# Altium footprint library Diodes.PcbLib: 37 footprints (part 1 of 3)
Each footprint in its own frame and in the unit in brackets; x right, y up, seen from the top. Pads: shape width x height; smd on the part's side, far side on the other; paste and mask are expansions set on the pad; w line width, h text height; cw(c..) or ccw(c..) is an arc to the next point about the centre after c.
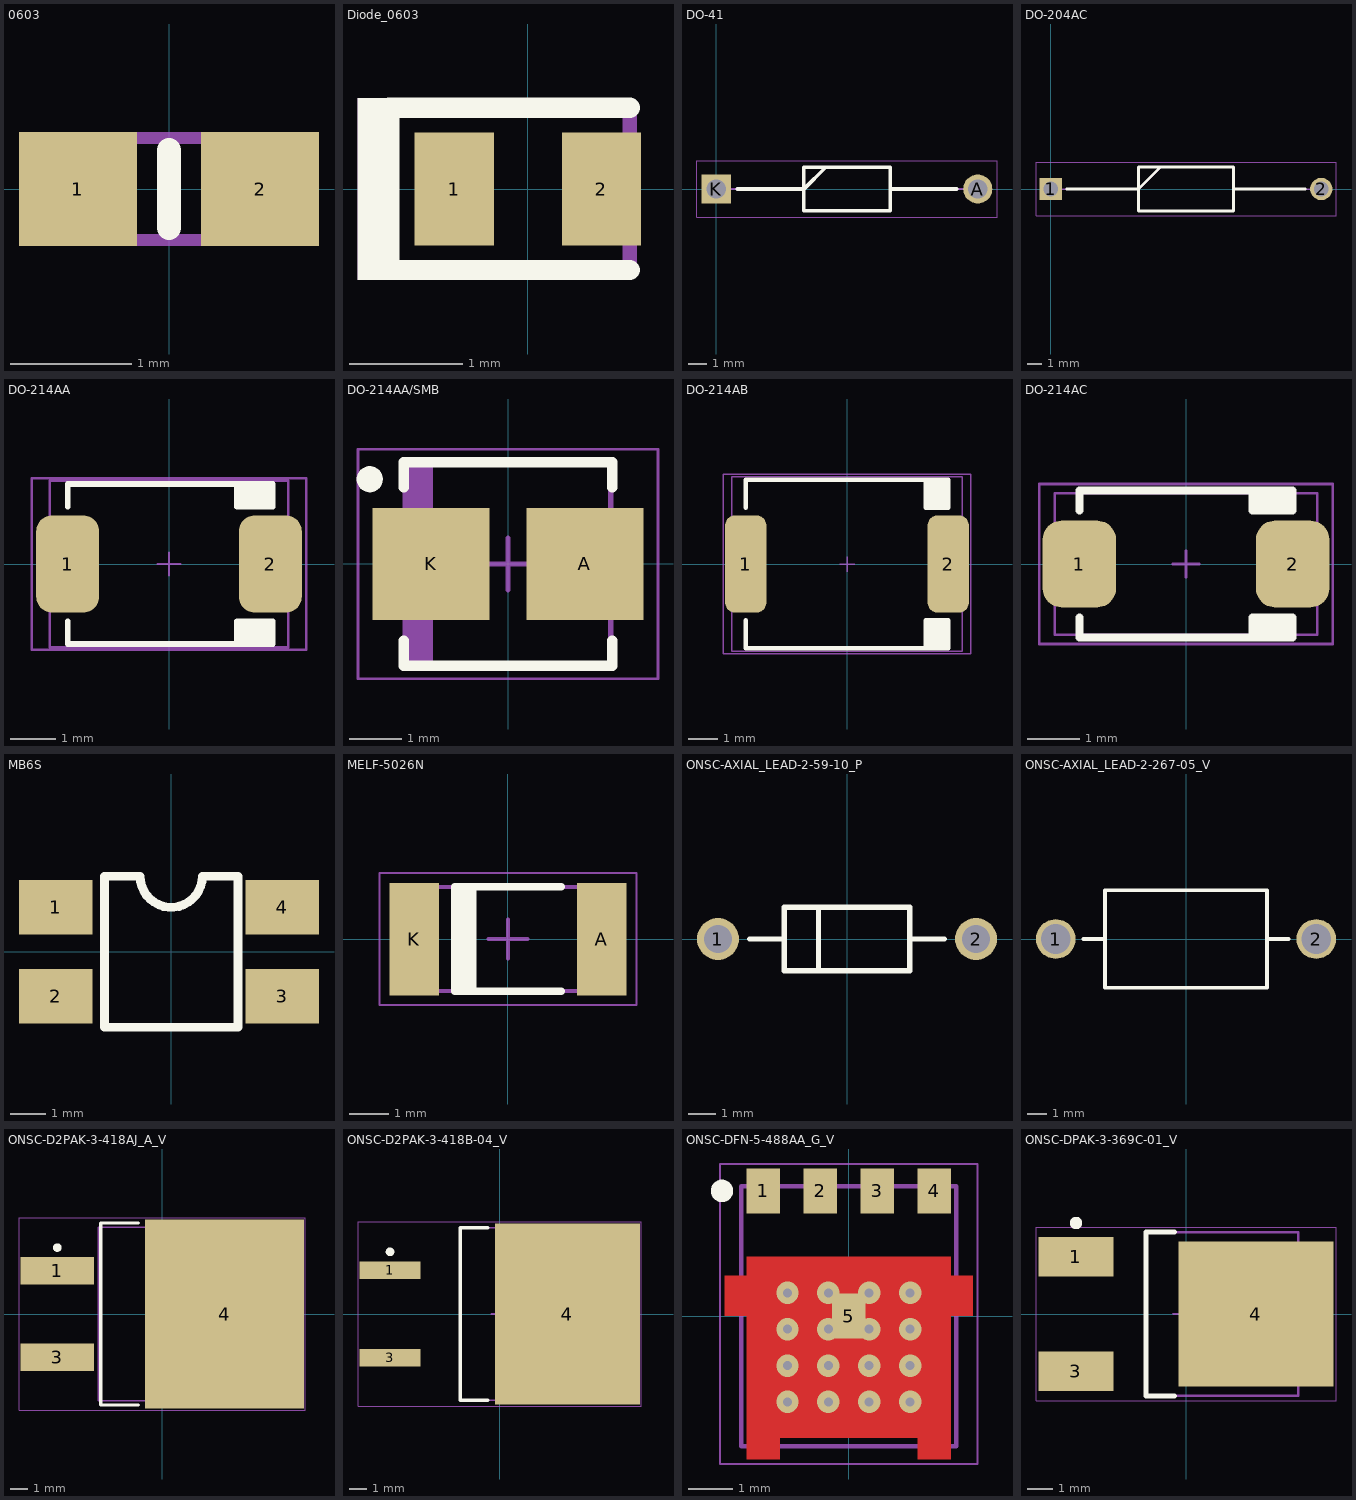
[diagram p0: the footprints below, top view; thin cyan lines are the x and y axes]

## 0603 [mm]
pads (2):
  rect 0.97x0.94 smd: 1(-0.75,0) 2(0.75,0)
Top Overlay:
  lines w0.2: 0,-0.32 0,0.32
Mechanical 15:
  lines w0.1: -0.83,-0.42 -0.83,0.42 0.83,0.42 0.83,-0.42 -0.83,-0.42

## Diode_0603 [mm]
pads (2):
  rect 0.7x1 smd: 1(-0.65,0) 2(0.65,0)
Top Overlay:
  region: -1.5,0.8 -1.5,-0.8 -1.2,-0.8 -1.2,0.8
  lines w0.178: 0.9,-0.716 -1.224,-0.716 -1.224,0.718 0.9,0.718
Mechanical 5:
  region: -1.5,0.8 -1.5,-0.8 -1.2,-0.8 -1.2,0.8
  lines w0.127: -1.224,-0.716 -1.224,0.718 0.9,0.718 0.9,-0.716 -1.224,-0.716
3D body "Diode_0603.stp": height 0.85, standoff 0, extent -0.9,-0.5 0.9,0.5

## DO-41 [mm]
pads (2):
  round 1.575 hole 1.05: A(14.1,0)
  rect 1.575x1.575 / inner round 1.575 / far side rect 1.575x1.575 hole 1.05: K(0,0)
Top Overlay:
  lines w0.2: 1.138,0 4.725,0 5.9,1.175 ; 9.375,0 12.962,0 ; 4.725,-1.175 4.725,1.175 9.375,1.175 9.375,-1.175 4.725,-1.175
Mechanical 15:
  lines w0.1: 0,0 4.725,0 5.9,1.175 ; 9.375,0 14.1,0 ; 4.725,-1.175 4.725,1.175 9.375,1.175 9.375,-1.175 4.725,-1.175
Mechanical 20:
  lines w0.05: -1.038,-1.525 -1.038,1.525 15.137,1.525 15.137,-1.525 -1.038,-1.525
3D body "1N4937RLG.stp": height 2.69, standoff -2.7, extent -0.341,-1.397 14.565,1.298

## DO-204AC [mm]
pads (2):
  rect 1.575x1.575 / inner round 1.575 / far side rect 1.575x1.575 hole 1.05: 1(0,0)
  round 1.575 hole 1.05: 2(19.1,0)
Top Overlay:
  lines w0.2: 1.138,0 6.2,0 7.75,1.55 ; 12.9,0 17.962,0 ; 6.2,-1.55 12.9,-1.55 12.9,1.55 6.2,1.55 6.2,-1.55
Mechanical 15:
  lines w0.1: 0,0 6.2,0 7.75,1.55 ; 12.9,0 19.1,0 ; 6.2,-1.55 12.9,-1.55 12.9,1.55 6.2,1.55 6.2,-1.55
Mechanical 20:
  lines w0.05: -1.038,-1.9 20.137,-1.9 20.137,1.9 -1.038,1.9 -1.038,-1.9
3D body "SB240-E3_54.stp": height 3.6, standoff -3.6, extent -0.326,-1.822 19.63,1.778

## DO-214AA [mil] "SMB"
height 104.33
pads (2):
  rrect50% 55x85 smd: 1(-88.58,0) 2(88.58,0)
Top Overlay:
  region: 59.5,50 59.5,70 90.58,70 90.58,50
  region: 59.5,-50 59.5,-70 90.58,-70 90.58,-50
  lines w5: -88.58,-50 -88.58,-70 90.58,-70 90.58,-50 59.5,-50 59.5,-70 ; -88.58,50 -88.58,70 90.58,70 90.58,50 59.5,50 59.5,70
Mechanical 13:
  lines w2: -10,0 10,0 ; 0,-10 0,10 ; -104.33,-72.84 -104.33,72.84 104.33,72.84 104.33,-72.84 -104.33,-72.84
Mechanical 14:
  lines w2: -120,-75 120,-75 120,75 -120,75 -120,-75
3D body "User Library-DO-214AA_SMB.STEP": height 86.65, standoff -1.97, extent -104.33,-72.84 104.33,72.84

## DO-214AA/SMB [mm]
height 2
pads (2):
  rect 2.25x2.15 smd: A(1.475,0) K(-1.475,0)
Top Overlay:
  circle w0.25: c-2.65,1.625 r0.125
  lines w0.2: -2,-1.475 -2,-1.95 2,-1.95 2,-1.475 ; -2,1.475 -2,1.95 2,1.95 2,1.475
Mechanical 13:
  rectangle: -1.97,-1.95 -1.44,1.95
  lines w0.1: -1.97,-1.95 -1.97,1.95 1.97,1.95 1.97,-1.95 -1.97,-1.95
Mechanical 15:
  lines w0.05: -2.875,-2.2 -2.875,2.2 2.875,2.2 2.875,-2.2 -2.875,-2.2
  lines w0.1: -0.5,0 0.5,0 ; 0,-0.5 0,0.5
3D body: height 2, standoff 0, extent -1.97,-1.95 1.97,1.95

## DO-214AB [mil] "SMC"
height 98.43
pads (2):
  rrect50% 55x130 smd: 1(-135,0) 2(135,0)
Top Overlay:
  rectangle: 105,74.8 135,112.05
  rectangle: 105,-112.05 135,-74.8
  lines w6: -135,-75 -135,-112.05 135,-112.05 135,-74.8 105,-74.8 105,-112.05 ; -135,74.8 -135,112.05 135,112.05 135,74.8 105,74.8 105,112.05
Mechanical 13:
  lines w2: -10,0 10,0 ; 0,-10 0,10 ; -153.54,-116.14 -153.54,116.14 153.54,116.14 153.54,-116.14 -153.54,-116.14
Mechanical 14:
  lines w2: -165,-120 165,-120 165,120 -165,120 -165,-120
3D body "User Library-DO-214AB-SMC.STEP": height 94.53, standoff -1.97, extent -153.54,-116.14 153.54,116.14

## DO-214AC [mil] "SMA"
pads (2):
  rrect50% 55x65 smd: 1(-80,0) 2(80,0)
Top Overlay:
  region: 50,40 50,55 80,55 80,40
  region: 50,-40 50,-55 80,-55 80,-40
  lines w6: -80,-40 -80,-55 80,-55 80,-40 50,-40 50,-55 ; -80,40 -80,55 80,55 80,40 50,40 50,55
Mechanical 13:
  lines w2: -10.01,-0.01 9.99,-0.01 ; -0.01,-10.01 -0.01,9.99 ; -98.44,-53.16 98.41,-53.16 98.41,53.14 -98.44,53.14 -98.44,-53.16
Mechanical 14:
  lines w2: -110,-60 -110,60 110,60 110,-60 -110,-60
3D body "User Library-DO-214AC_SMA.STEP": height 84.69, standoff -1.97, extent -98.44,-53.16 98.41,53.14

## MB6S [mm]
pads (4):
  rect 2.1x1.55 smd: 1(-3.302,1.27) 2(-3.302,-1.27) 3(3.175,-1.27) 4(3.175,1.27)
Top Overlay:
  lines w0.254: -1.905,-2.159 1.905,-2.159 1.905,2.159 0.889,2.159 cw(c0,2.159) -0.889,2.159 -1.905,2.159 -1.905,-2.159
3D body "Bridge SMD TO-269AA.STEP": height 2.91, standoff 0, extent -3.647,-2.348 3.393,2.602

## MELF-5026N [mm] "MELF Diode, 2-Leads, Body 5.00x2.62mm, IPC Medium Density"
height 2.64
pads (2):
  rect 1.25x2.85 smd: A(2.375,0) K(-2.375,0)
Top Overlay:
  rectangle: -1.35,-1.325 -0.8,1.325
  lines w0.2: 1.35,-1.325 -1.35,-1.325 -1.35,1.325 1.35,1.325
Mechanical 13:
  lines w0.1: -2.6,-1.32 -2.6,1.32 2.6,1.32 2.6,-1.32 -2.6,-1.32
Mechanical 15:
  lines w0.05: -3.25,-1.675 -3.25,1.675 3.25,1.675 3.25,-1.675 -3.25,-1.675
  lines w0.1: -0.5,0 0.5,0 ; 0,-0.5 0,0.5
3D body "MELF-5026N.step": height 2.62, standoff 0.01, extent -2.5,-1.307 2.5,1.307

## ONSC-AXIAL_LEAD-2-59-10_P [mm] "AXIAL, 2-Leads, Diameter 2.35mm"
height 2.35
pads (2):
  round 1.55 hole 1.05: 1(-4.77,0) 2(4.77,0)
Top Overlay:
  lines w0.2: -3.595,0 -2.325,0 ; -1.055,-1.175 -1.055,1.175 ; 2.325,0 3.595,0 ; -2.325,-1.175 2.325,-1.175 2.325,1.175 -2.325,1.175 -2.325,-1.175

## ONSC-AXIAL_LEAD-2-267-05_V [mm] "AXIAL, 2-Leads, Diameter 5.05mm"
height 5.05
pads (2):
  round 2.05 hole 1.55: 1(-6.745,0) 2(6.745,0)
Top Overlay:
  lines w0.2: -5.32,0 -4.2,0 ; 4.2,0 5.32,0 ; -4.2,-2.525 4.2,-2.525 4.2,2.525 -4.2,2.525 -4.2,-2.525

## ONSC-D2PAK-3-418AJ_A_V [mil] "DPAK, 3-Leads, Body 10.16x9.015mm, Pitch 2.54mm"
height 196.06
pads (3):
  rect 169x63 smd: 1(-242.13,100) 3(-242.13,-100)
  rect 366x436 smd: 4(143.7,0)
Top Overlay:
  circle w9.84: c-242.13,153.15 r4.92
  lines w7.87: -55.05,-210.04 -141.88,-210.04 -141.88,210.04 -55.05,210.04
Mechanical 13:
  lines w3.94: -147.64,-200 -147.64,200 207.28,200 207.28,-200 -147.64,-200
Mechanical 15:
  lines w1.97: -330.44,-221.94 -330.44,221.94 330.44,221.94 330.44,-221.94 -330.44,-221.94
  lines w3.94: -19.68,0 19.68,0 ; 0,-19.68 0,19.68
3D body: height 196.06, standoff 0, extent -147.64,-200 207.28,200

## ONSC-D2PAK-3-418B-04_V [mm] "DPAK, 3-Leads, Body 9.97x9.145mm, Pitch 2.54mm"
height 4.83
pads (3):
  rect 3.504x1.016 smd: 1(-6.35,2.54) 3(-6.35,-2.54)
  rect 8.38x10.49 smd: 4(3.9,0)
Top Overlay:
  circle w0.25: c-6.35,3.598 r0.125
  lines w0.2: -0.69,-4.985 -2.3,-4.985 -2.3,4.985 -0.69,4.985
Mechanical 13:
  lines w0.1: -2.3,-4.985 6.845,-4.985 6.845,4.985 -2.3,4.985 -2.3,-4.985
Mechanical 15:
  lines w0.05: -8.202,-5.345 8.19,-5.345 8.19,5.345 -8.202,5.345 -8.202,-5.345
  lines w0.1: -0.5,0 0.5,0 ; 0,-0.5 0,0.5
3D body: height 4.83, standoff 0, extent -2.3,-4.985 6.845,4.985

## ONSC-DFN-5-488AA_G_V [mm] "DFN, 5-Leads, Body 4.9x5.8mm"
height 1.1
pads (5):
  rect 0.75x1 smd: 1(-1.905,2.795) 2(-0.635,2.795) 3(0.635,2.795) 4(1.905,2.795)
  rect 0.75x1 smd mask+0: 5(0,0)
via -1.368,0.519 diameter 0.5 hole 0.2
via -0.456,0.519 diameter 0.5 hole 0.2
via 0.456,0.519 diameter 0.5 hole 0.2
via 1.368,0.519 diameter 0.5 hole 0.2
via -1.368,-0.292 diameter 0.5 hole 0.2
via -1.368,-1.103 diameter 0.5 hole 0.2
via -1.368,-1.914 diameter 0.5 hole 0.2
via -0.456,-0.292 diameter 0.5 hole 0.2
via 0.456,-0.292 diameter 0.5 hole 0.2
via 1.368,-0.292 diameter 0.5 hole 0.2
via -0.456,-1.103 diameter 0.5 hole 0.2
via 0.456,-1.103 diameter 0.5 hole 0.2
via 1.368,-1.103 diameter 0.5 hole 0.2
via -0.456,-1.914 diameter 0.5 hole 0.2
via 0.456,-1.914 diameter 0.5 hole 0.2
via 1.368,-1.914 diameter 0.5 hole 0.2
Top Layer:
  rectangle: -2.28,0 2.28,1.33
  rectangle: -2.775,0 -2.28,0.905
  region: 2.775,0.905 2.28,0.905 2.28,0 2.775,0
  rectangle: -2.28,-2.725 2.28,0
  rectangle: -2.28,-3.2 -1.53,-2.725
  region: 2.28,-2.725 1.53,-2.725 1.53,-3.2 2.28,-3.2
Top Overlay:
  circle w0.25: c-2.83,2.795 r0.125
Mechanical 13:
  lines w0.1: -2.4,-2.9 -2.4,2.9 2.4,2.9 2.4,-2.9 -2.4,-2.9
Mechanical 15:
  lines w0.05: -2.875,-3.3 -2.875,3.395 2.875,3.395 2.875,-3.3 -2.875,-3.3
  lines w0.1: -0.5,0 0.5,0 ; 0,-0.5 0,0.5
3D body: height 1.1, standoff 0, extent -2.4,-2.9 2.4,2.9

## ONSC-DPAK-3-369C-01_V [mm] "DPAK, 3-Leads, Body 6.54x6.095mm, Pitch 2.29mm"
height 2.38
pads (3):
  rect 3x1.6 smd: 1(-4.4,2.29) 3(-4.4,-2.29)
  rect 6.2x5.8 smd: 4(2.8,0)
Top Overlay:
  circle w0.25: c-4.4,3.64 r0.125
  lines w0.2: -0.453,-3.27 -1.6,-3.27 -1.6,3.27 -0.453,3.27
Mechanical 13:
  lines w0.1: -1.6,-3.27 4.495,-3.27 4.495,3.27 -1.6,3.27 -1.6,-3.27
Mechanical 15:
  lines w0.05: -6,-3.465 6,-3.465 6,3.465 -6,3.465 -6,-3.465
  lines w0.1: -0.5,0 0.5,0 ; 0,-0.5 0,0.5
3D body: height 2.38, standoff 0, extent -1.6,-3.27 4.495,3.27